# Altium schematic symbol library aiskylab-09CirProtect.SchLib: 7 symbols
Pins are listed as number, name and electrical type; pins without a type are passive.

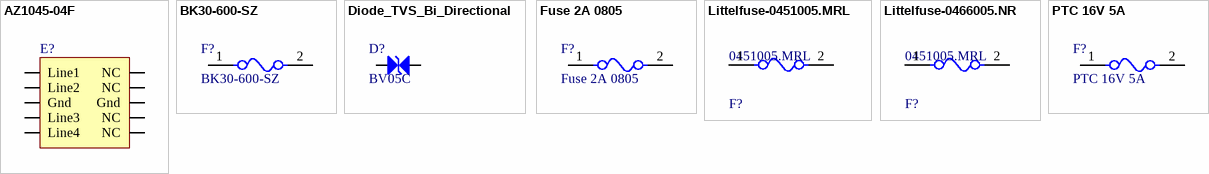
[diagram p0: symbols AZ1045-04F to PTC 16V 5A]

## AZ1045-04F
designator E?  (value not drawn)
footprint DFN-2510
pins: 1 Line1, 2 Line2, 3 Gnd, 4 Line3, 5 Line4, 6 NC, 7 NC, 8 Gnd, 9 NC, 10 NC

## BK30-600-SZ
designator F?
6A 30V PPTC 自恢复保险
footprint PTTC BK30-600-SZ
pins: 1, 2

## Diode_TVS_Bi_Directional
designator D?, comment BV05C
ComponentLink1Description: SupplierLink; ComponentLink1URL: https://item.szlcsc.com/399625.html; SupplierNumber: C409434; ComponentLink2Description: Datasheet; ComponentLink2URL: https://atta.szlcsc.com/upload/public/pdf/source/20190807/C409434_6FC96C7277C43389D52B579DCF1A116C.pdf?Expires=4070880000&OSSAccessKeyId=LTAIJDIkh7KmGS1H&Signature=O%2By6VAZ0EDj7W8JLToVymly06Js%3D&response-content-disposition=attachment%3Bfilename%3DC409434_BV05C_2019-08-07.PDF; Supplier: LC
footprint SOD-323
pins: 1, 2

## Fuse 2A 0805
designator F?
贴片保险，自恢复
footprint FU 0805 (PTC)
pins: 1, 2

## Littelfuse-0451005.MRL
designator F?, comment 0451005.MRL
FUSE BRD MNT 5A 125VAC/VDC 2SMD; Manufacturer: Littelfuse Inc; Fuse Blow Speed: Fast; Voltage Rating: 125V; Fuse Interrupt Ac Current: 50A; Value: 0.0125Ω; Fuse I2T: 5.566A2Sec; Device Class L3: unset; Temperature Range Low: -55°C; Height: 2.94mm; Category: Fuse; Fuse Current: 5A; Octopart: https://octopart.com/0451005.mrl-littelfuse-566389; Package: 0451; RoHS: TRUE; Manufacturer Part Number: 0451005.MRL; Mouser Description: Surface Mount Fuses 125V 5A; Device Class L2: Fuses; ComponentLink2URL: https://www.littelfuse.com/~/media/electronics/datasheets/fuses/littelfuse_fuse_451_453_datasheet.pdf.pdf; Temperature Range High: +125°C; Digikey Description: FUSE BRD MNT 5A 125VAC/VDC 2SMD; Device Class L1: Circuit Protection; Automotive: No; Fuse Interrupt Dc Current: 50A; Temperature: -55°C to +125°C; Max Fuse Dc Voltage: 125V; Resistance: 0.0125Ω; ComponentLink2Description: Datasheet; Max Fuse Ac Voltage: 125V; Lead Free: Yes
footprint FP-0451-MFG
pins: 1, 2

## Littelfuse-0466005.NR
designator F?, comment 0451005.MRL
FUSE BRD MNT 5A 125VAC/VDC 2SMD; Manufacturer: Littelfuse Inc; Fuse Blow Speed: Fast; Voltage Rating: 125V; Fuse Interrupt Ac Current: 50A; Value: 0.0125Ω; Fuse I2T: 5.566A2Sec; Device Class L3: unset; Temperature Range Low: -55°C; Height: 2.94mm; Category: Fuse; Fuse Current: 5A; Octopart: https://octopart.com/0451005.mrl-littelfuse-566389; Package: 0451; RoHS: TRUE; Manufacturer Part Number: 0451005.MRL; Mouser Description: Surface Mount Fuses 125V 5A; Device Class L2: Fuses; ComponentLink2URL: https://www.littelfuse.com/~/media/electronics/datasheets/fuses/littelfuse_fuse_451_453_datasheet.pdf.pdf; Temperature Range High: +125°C; Digikey Description: FUSE BRD MNT 5A 125VAC/VDC 2SMD; Device Class L1: Circuit Protection; Automotive: No; Fuse Interrupt Dc Current: 50A; Temperature: -55°C to +125°C; Max Fuse Dc Voltage: 125V; Resistance: 0.0125Ω; ComponentLink2Description: Datasheet; Max Fuse Ac Voltage: 125V; Lead Free: Yes
footprint FP-0451-MFG
pins: 1, 2

## PTC 16V 5A
designator F?
footprint PPTC 2920/7351 (7.36mmX5.12mm)
pins: 1, 2